# EAGLE library part APA102 (library POVLibrary)
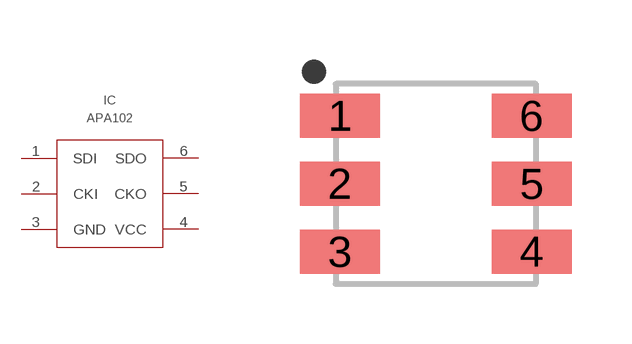
[diagram p1: symbol with the pads of SM_LED_PLCC6; footprint SM_LED_PLCC6]

Designator prefix IC

## APA102  [SM_LED_PLCC6]
1  SDI
2  CKI
3  GND
4  VCC
5  CKO
6  SDO

## Footprint SM_LED_PLCC6 (pad centres in mm)
SM_LED_PLCC6 Version Date Employee Description 1.0 2016-05-21 ChrRaj00 Initial Version
smd 2 x 1.1: 1 -2.4,1.7; 2 -2.4,0; 3 -2.4,-1.7; 4 2.4,-1.7; 5 2.4,0; 6 2.4,1.7